# Altium footprint library 2PinsHeader.PcbLib: 1 footprints
Each footprint in its own frame and in the unit in brackets; x right, y up, seen from the top. Pads: shape width x height; smd on the part's side, far side on the other; paste and mask are expansions set on the pad; w line width, h text height; cw(c..) or ccw(c..) is an arc to the next point about the centre after c.
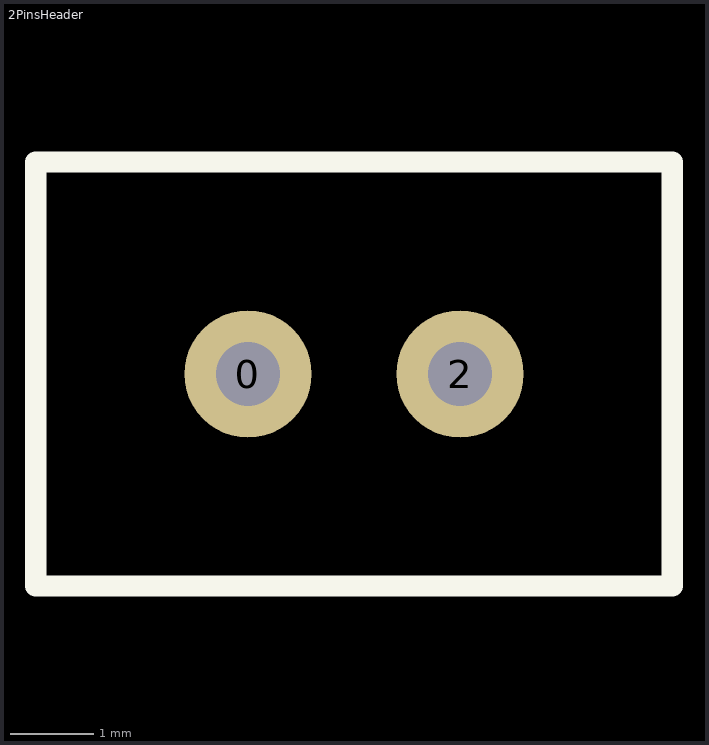
[diagram p0: the footprint, top view; thin cyan lines are the x and y axes]

## 2PinsHeader [mil]
pads (2):
  round 60 hole 30: 0(600,300) 2(700,300)
Top Overlay:
  lines w10: 500,200 500,300 500,400 800,400 800,200 600,200 500,200